# Altium schematic symbol library DF9-15P-1V_32.SchLib: 2 symbols
Pins are listed as number, name and electrical type; pins without a type are passive.

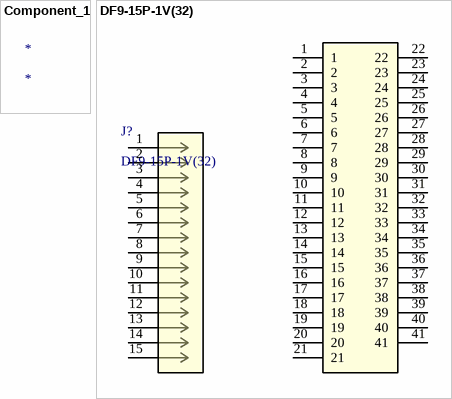
[diagram p0: symbols Component_1 to DF9-15P-1V(32)]

## Component_1
designator *

## DF9-15P-1V(32)
designator J?
15 Position Connector Header, Center Strip Contacts Surface Mount Tin; Mfr_Name: JAE Electronics; Copyright: Copyright (C) 2023 Ultra Librarian. All rights reserved.; Manufacturer_Part_Number: DF9-15P-1V(32); Digi-Key_Part_Number_1: H10412CT-ND; Digi-Key_Part_Number_2: H10412DKR-ND; Digi-Key_Part_Number_3: H10412TR-ND; Digi-Key_Part_Number_4: H10412TR-NDL; RefDes: RefDes; Type: DEV
footprint DF9-15P-1V(32) (Footprint not found)
pins: 1, 1, 2, 2, 3, 3, 4, 4, 5, 5, 6, 6, 7, 7, 8, 8, 9, 9, 10, 10, 11, 11, 12, 12, 13, 13, 14, 14, 15, 15, 16, 17, 18, 19, 20, 21, 22, 23, 24, 25, 26, 27, 28, 29, 30, 31, 32, 33, 34, 35, 36, 37, 38, 39, 40, 41